# EAGLE library part DWM1000 (library DWM1000)
IEEE 802.15.4-2011 UWB Transceiver Module Source: Datasheet <http://www.decawave.com/sites/default/files/resources/dwm1000-datasheet-v1.3.pdf>
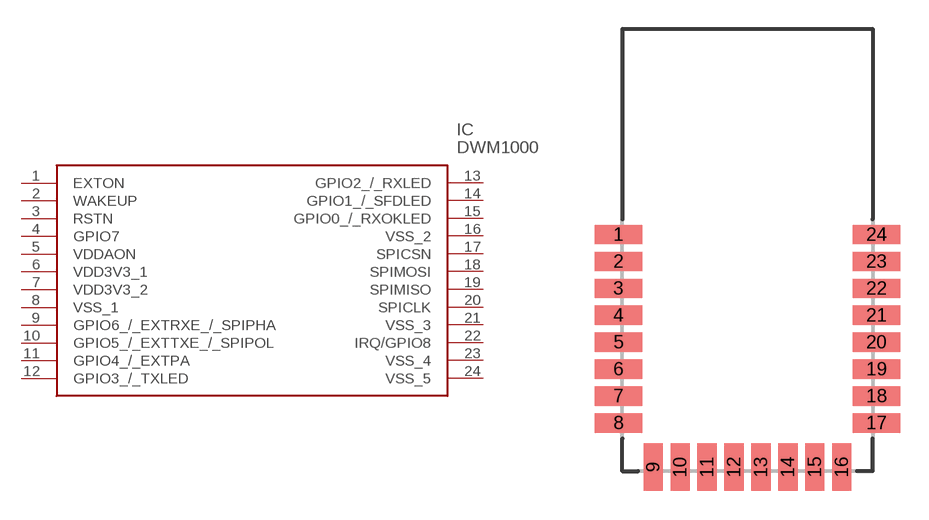
[diagram p0: symbol with the pads of DWM1000; footprint DWM1000]

Designator prefix IC

## DWM1000 (ARROW_PART_NUMBER: DWM1000; DESCRIPTION: IEEE 802.15.4-2011 UWB Transceiver Module; HEIGHT: mm; MANUFACTURER_NAME: Decawave; MANUFACTURER_PART_NUMBER: DWM1000)  [DWM1000]
1  EXTON
2  WAKEUP
3  RSTN
4  GPIO7
5  VDDAON
6  VDD3V3_1
7  VDD3V3_2
8  VSS_1
9  GPIO6_/_EXTRXE_/_SPIPHA
10  GPIO5_/_EXTTXE_/_SPIPOL
11  GPIO4_/_EXTPA
12  GPIO3_/_TXLED
13  GPIO2_/_RXLED
14  GPIO1_/_SFDLED
15  GPIO0_/_RXOKLED
16  VSS_2
17  SPICSN
18  SPIMOSI
19  SPIMISO
20  SPICLK
21  VSS_3
22  IRQ/GPIO8
23  VSS_4
24  VSS_5

## Footprint DWM1000 (pad centres in mm)
DWM1000
smd 2.45 x 1: 1 -6.705,12.3; 2 -6.705,10.9; 3 -6.705,9.5; 4 -6.705,8.1; 5 -6.705,6.7; 6 -6.705,5.3; 7 -6.705,3.9; 8 -6.705,2.5; 17 6.705,2.5; 18 6.705,3.9; 19 6.705,5.3; 20 6.705,6.7; 21 6.705,8.1; 22 6.705,9.5; 23 6.705,10.9; 24 6.705,12.3
smd 1 x 2.45: 9 -4.9,0.205; 10 -3.5,0.205; 11 -2.1,0.205; 12 -0.7,0.205; 13 0.7,0.205; 14 2.1,0.205; 15 3.5,0.205; 16 4.9,0.205